# Altium schematic symbol library 1812_CAP.SchLib: 1 symbol
Pins are listed as number, name and electrical type; pins without a type are passive.

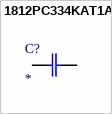
[diagram p0: symbol 1812PC334KAT1A]

## 1812PC334KAT1A
designator C?
0.33ÂµF Â±10% 250V Ceramic Capacitor X7R 1812 (4532 Metric); MF: AVX; MP: 1812PC334KAT1A; Value: *; Check_prices: https://www.snapeda.com/parts/1812PC334KAT1A/AVX/view-part/607553/?ref=eda; Purchase-URL: https://pricing.snapeda.com/search/part/1812PC334KAT1A/?ref=eda; Price: None; SnapEDA_Link: https://www.snapeda.com/parts/1812PC334KAT1A/AVX/view-part/607553/?ref=snap; Availability: Warning; Package: 1812 AVX
footprint CAPC4532X254N
pins: 1 C1, 2 C2